# EAGLE library part RASPBERRY-PI (library ELL-i-Boards)
Raspberry Pi Board Based on an original layout by Jacques Lagnel 2012 Raspberry Pi official website <http://www.raspberrypi.org/> Board dimension: Forum 3D model <http://www.raspberrypi.org/forum/general-discussion/mechanical-profile-3d-models?value=3d%20model&type=1&include=1&search=1&ret=all> The GPIO Connector (P1): http://elinux.org/RPi_Low-level_peripherals
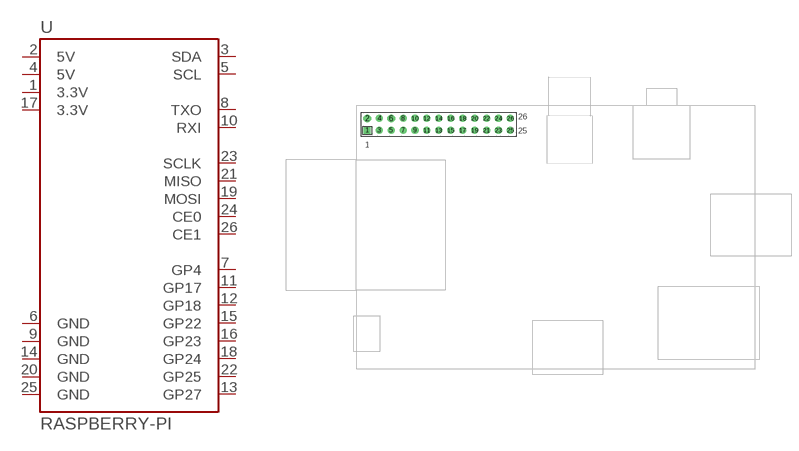
[diagram p3: symbol with the pads of RASPBERRYPI-BOARD; footprint RASPBERRYPI-BOARD]

Designator prefix -

## RASPBERRY-PI  [RASPBERRYPI-BOARD]
1  3.3V  pwr
2  5V  pwr
3  SDA
4  5V  pwr
5  SCL
6  GND  pwr
7  GP4
8  TXO  out
9  GND  pwr
10  RXI  in
11  GP17
12  GP18
13  GP27
14  GND  pwr
15  GP22
16  GP23
17  3.3V  pwr
18  GP24
19  MOSI  out
20  GND  pwr
21  MISO  in
22  GP25
23  SCLK  out
24  CE0  out
25  GND  pwr
26  CE1  out

## Footprint RASPBERRYPI-BOARD (pad centres in mm)
drill 1 square: 1 0,0
drill 1 pad 1.676: 2 0,2.54; 6 5.08,2.54
drill 1: 3 2.54,0; 4 2.54,2.54; 5 5.08,0; 7 7.62,0; 8 7.62,2.54; 9 10.16,0; 10 10.16,2.54; 11 12.7,0; 12 12.7,2.54; 13 15.24,0; 14 15.24,2.54; 15 17.78,0; 16 17.78,2.54; 17 20.32,0; 18 20.32,2.54; 19 22.86,0; 20 22.86,2.54; 21 25.4,0; 22 25.4,2.54; 23 27.94,0; 24 27.94,2.54; 25 30.48,0; 26 30.48,2.54